# EAGLE library part 750319214 (library Wurth_Power Magnetics_WE-FLYTI)
WE-FLYTI Flyback Transformers Characteristics Low leakage inductance Multiple package sizes Wide range input voltages Different output voltages available Isolation voltage: up to 3000VAC Lead free and RoHS compliant Operating temp: -40°C to 125°C Applications Industrial and medical power supplies Auxiliary power supplies Home automation Isolated DC/DC power supplies <https://www.we-online.com/components/media/o795300v209%20FAMILY-MID-FLYTI.jpg> Details see: www.we-online.com/en/components/products/WE-FLYTI <www.we-online.com/catalog/WE-FLYTI/?utm_source=eagle_model&utm_medium=description_link&utm_campaign=eisos_eagle> Created by Ella Wu 2024-07-03 2024 (C) Wurth Elektronik
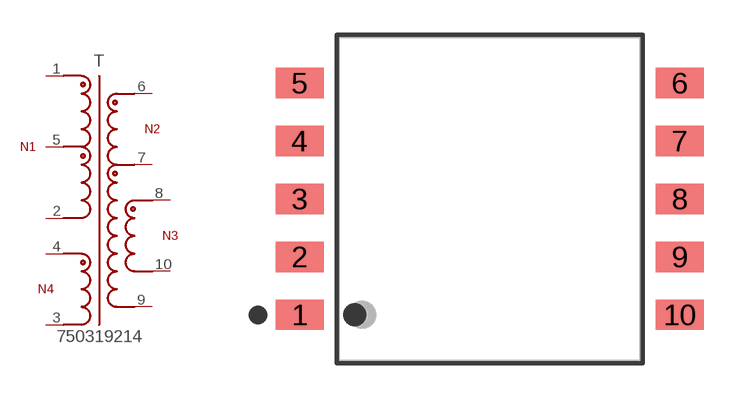
[diagram p11: symbol with the pads of WE-FLYTI_EPQ13_6389_10PINS; footprint WE-FLYTI_EPQ13_6389_10PINS]

Designator prefix T

## 750319214 (DATASHEET-URL: https://www.we-online.com/redexpert/spec/750319214?ae; IOUT1: 1000mA; ISAT: 2.6A; L: 65uH; LS: 600nH; MOUNT: SMT; N: 6:1:5:2.3; PART-NUMBER: 750319214; SIZE: EPQ13; VALUE: 750319214; VAUX: 10.5V; VIN: 36 - 57 V (DC); VOUT1: 24V; VT: 1500V(AC))  [WE-FLYTI_EPQ13_6389_10PINS]
1  1  pas
2  2  pas
3  3  pas
4  4  pas
5  5  pas
6  6  pas
7  7  pas
8  8  pas
9  9  pas
10  10  pas

## Footprint WE-FLYTI_EPQ13_6389_10PINS (pad centres in mm)
WE-FLYTI Flyback Transformers Size: EPQ13,SMT,10pins Bobbin: 070-6389
smd 2.08 x 1.31: 1 -8.2,-5; 2 -8.2,-2.5; 3 -8.2,0; 4 -8.2,2.5; 5 -8.2,5; 6 8.2,5; 7 8.2,2.5; 8 8.2,0; 9 8.2,-2.5; 10 8.2,-5